# Altium integrated library Motorola Logic Latch.IntLib: 49 symbols (part 2 of 2)
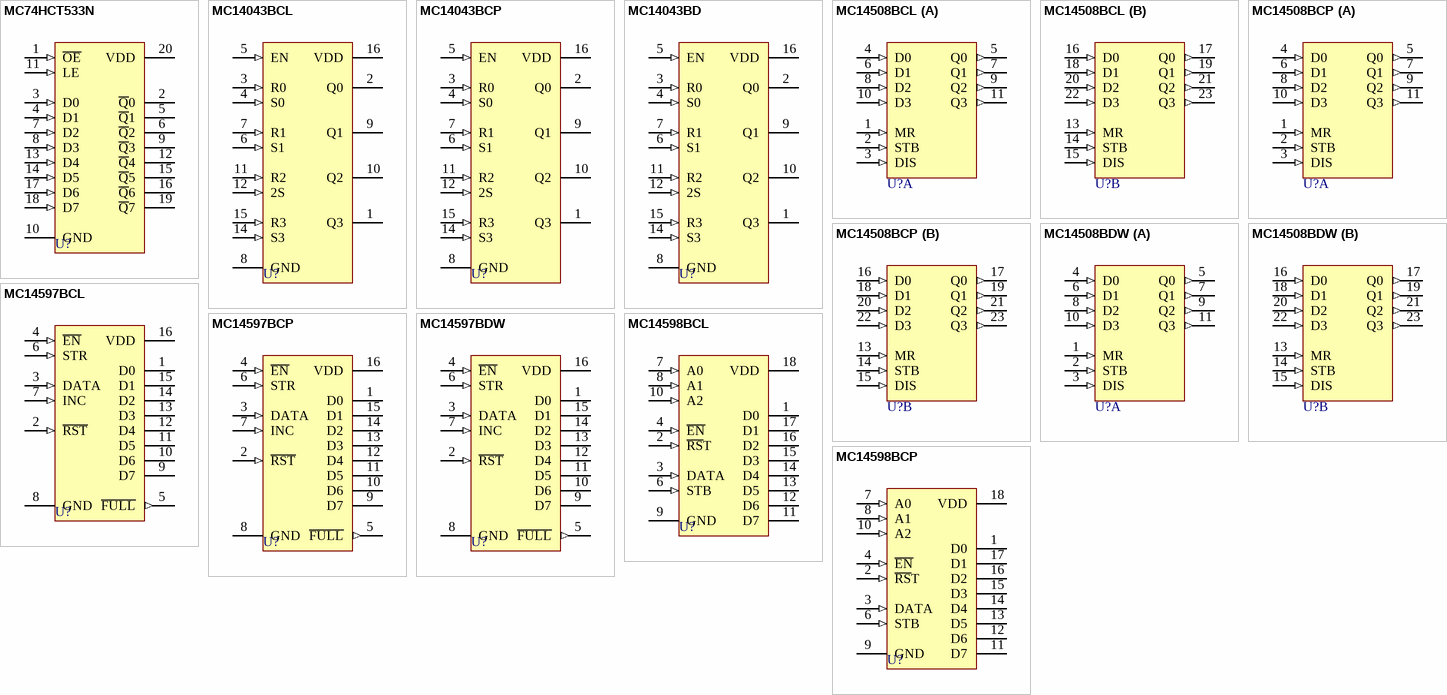
[diagram p2: symbols MC74HCT533N to MC14598BCP]

## MC14598BCP
designator U?
8-Bit Bus-Compatible Latches; Note: Pin 5 is NC and not drawn.; Published: 17-Jul-2002; LatestRevisionDate: 06-Jun-2005; LatestRevisionNote: Stylized 3D Model Added; DatasheetVersion: 1991; PackageReference: 707-02; Publisher: Altium Limited; PackageDescription: DIP; 18 Leads; Row Spacing 7.62 mm; Pitch 2.54 mm; ComponentLink1Description: Manufacturer Link; ComponentLink1URL: http://www.onsemi.com/site/products/parametrics/0,4446,339,00.html
footprint 707-02 (DIP; 18 Leads; Row Spacing 7.62 mm; Pitch 2.54 mm)
3D model 726-04 (DIP; 18 Leads; Row Spacing 7.62 mm; Pitch 2.54 mm)
pins: 1 D0 (hiz), 2 ~{RS}T (in), 3 DATA (in), 4 ~{EN} (in), 6 STB (in), 7 A0 (in), 8 A1 (in), 9 GND (power), 10 A2 (in), 11 D7 (hiz), 12 D6 (hiz), 13 D5 (hiz), 14 D4 (hiz), 15 D3 (hiz), 16 D2 (hiz), 17 D1 (hiz), 18 VDD (power)